# Altium footprint library PH2.0.PcbLib: 65 footprints (part 4 of 5)
Each footprint in its own frame and in the unit in brackets; x right, y up, seen from the top. Pads: shape width x height; smd on the part's side, far side on the other; paste and mask are expansions set on the pad; w line width, h text height; cw(c..) or ccw(c..) is an arc to the next point about the centre after c.
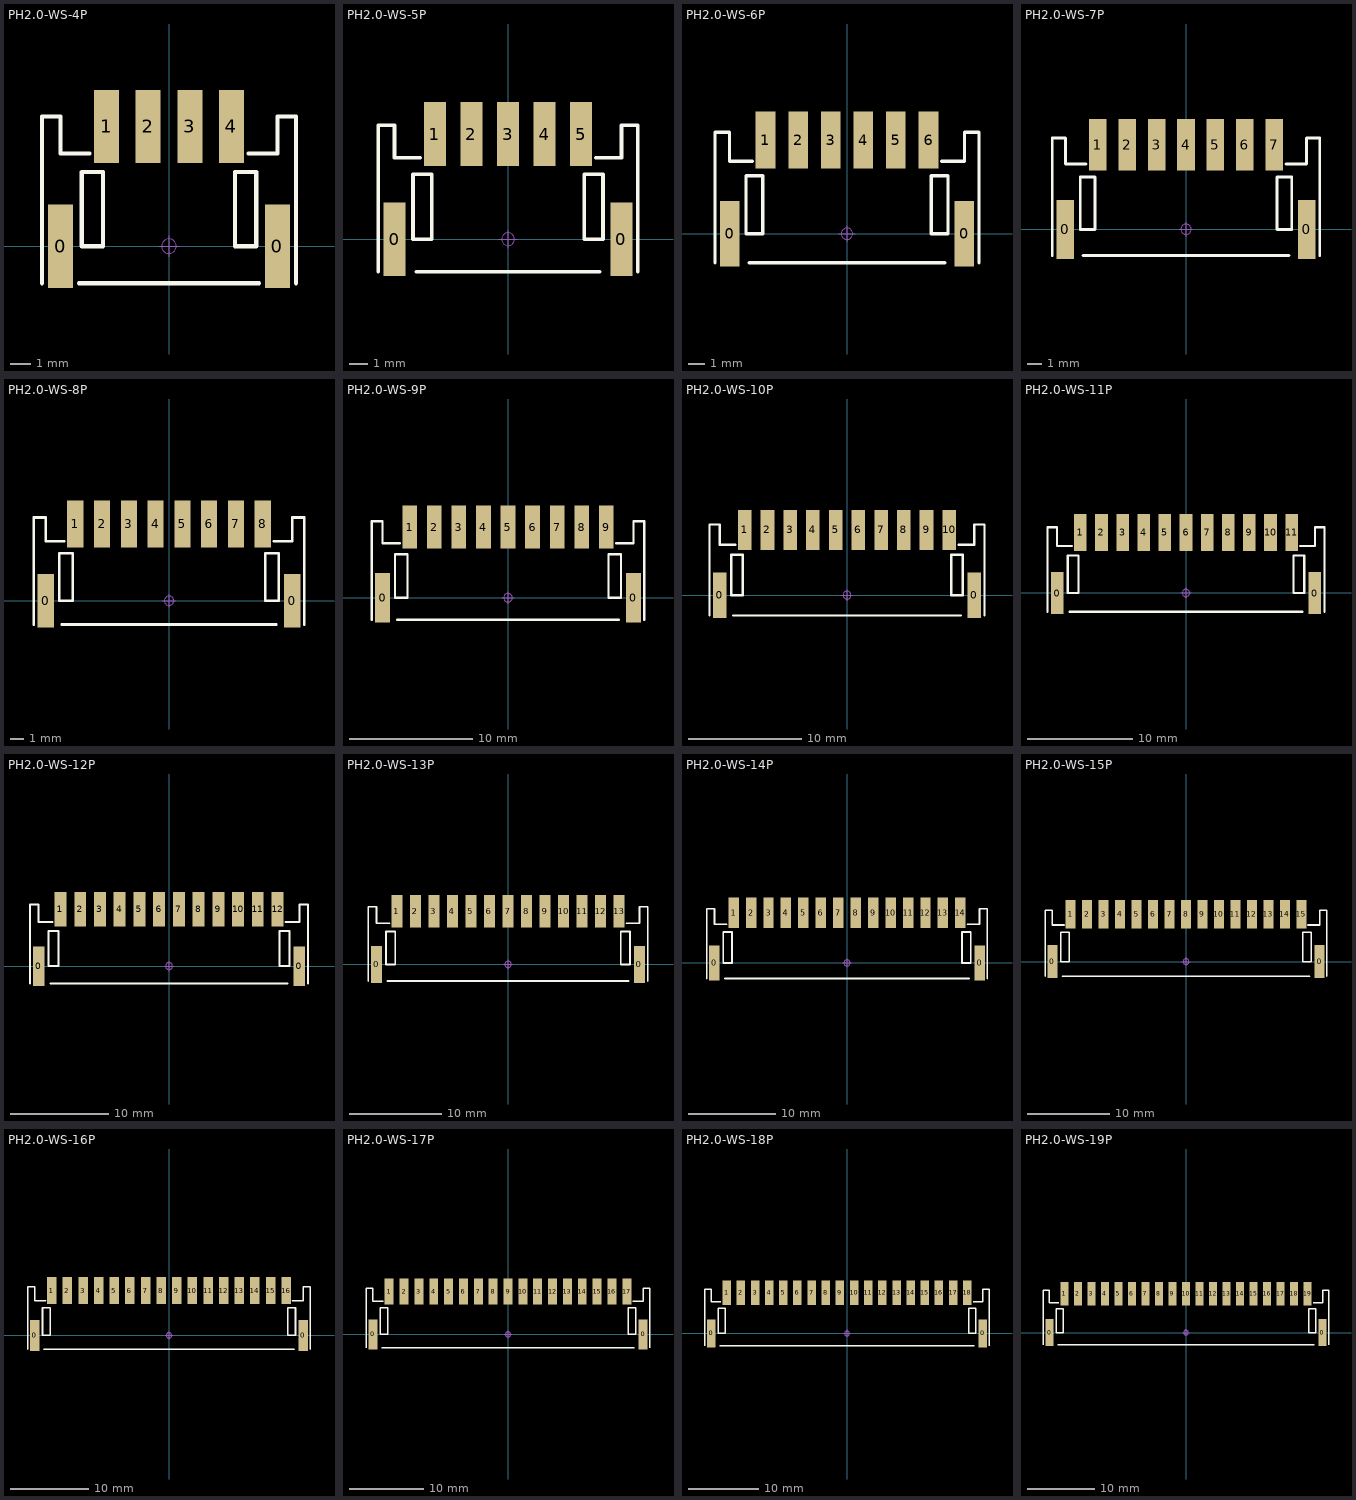
[diagram p3: the footprints below, top view; thin cyan lines are the x and y axes]

## PH2.0-WS-4P [mm] "长：12mm，宽：7.6mm，高：5.5mm"
pads (6):
  rect 1.2x4 smd: 0(-5.2,-0.006) 0(5.2,-0.006)
  rect 1.2x3.5 smd: 1(-3,5.744) 2(-1,5.744) 3(1,5.744) 4(3,5.744)
Top Overlay:
  lines w0.2: -6.096,-1.778 -6.096,6.223 -5.207,6.223 -5.207,4.445 -3.81,4.445 ; -4.318,-1.778 4.318,-1.778 ; 3.81,4.445 5.207,4.445 5.207,6.223 6.096,6.223 6.096,-1.778 ; -4.191,0 -4.191,3.556 -3.175,3.556 -3.175,0 -4.191,0 ; 3.175,0 3.175,3.556 4.191,3.556 4.191,0 3.175,0
Mechanical 15:
  circle w0.05: c0,0 r0.35
  lines w0.05: -0.5,0 0.5,0 ; 0,-0.5 0,0.5
3D body "PH2.0 SMD-W-4P.STEP": height 5.55, standoff 0.05, extent -6,-1.65 6,6.95

## PH2.0-WS-5P [mm] "长：14mm，宽：7.6mm，高：5.5mm"
pads (7):
  rect 1.2x4 smd: 0(-6.2,-0.006) 0(6.2,-0.006)
  rect 1.2x3.5 smd: 1(-4,5.744) 2(-2,5.744) 3(0,5.744) 4(2,5.744) 5(4,5.744)
Top Overlay:
  lines w0.2: -7.096,-1.778 -7.096,6.223 -6.207,6.223 -6.207,4.445 -4.81,4.445 ; -5,-1.778 5,-1.778 ; 4.81,4.445 6.207,4.445 6.207,6.223 7.096,6.223 7.096,-1.778 ; -5.191,0 -5.191,3.556 -4.175,3.556 -4.175,0 -5.191,0 ; 4.175,0 4.175,3.556 5.191,3.556 5.191,0 4.175,0
Mechanical 15:
  circle w0.05: c0,0 r0.35
  lines w0.05: -0.5,0 0.5,0 ; 0,-0.5 0,0.5
3D body "PH2.0 SMD-W-5P.STEP": height 5.55, standoff 0.05, extent -7,-1.65 7,6.95

## PH2.0-WS-6P [mm] "长：16mm，宽：7.6mm，高：5.5mm"
pads (8):
  rect 1.2x4 smd: 0(-7.2,-0.006) 0(7.2,-0.006)
  rect 1.2x3.5 smd: 1(-5,5.744) 2(-3,5.744) 3(-1,5.744) 4(1,5.744) 5(3,5.744) 6(5,5.744)
Top Overlay:
  lines w0.2: -8.096,-1.778 -8.096,6.223 -7.207,6.223 -7.207,4.445 -5.81,4.445 ; -6,-1.778 6,-1.778 ; 5.81,4.445 7.207,4.445 7.207,6.223 8.096,6.223 8.096,-1.778 ; -6.191,0 -6.191,3.556 -5.175,3.556 -5.175,0 -6.191,0 ; 5.175,0 5.175,3.556 6.191,3.556 6.191,0 5.175,0
Mechanical 15:
  circle w0.05: c0,0 r0.35
  lines w0.05: -0.5,0 0.5,0 ; 0,-0.5 0,0.5
3D body "PH2.0 SMD-W-6P.STEP": height 5.55, standoff 0.05, extent -8,-1.65 8,6.95

## PH2.0-WS-7P [mm] "长：18mm，宽：7.6mm，高：5.5mm"
pads (9):
  rect 1.2x4 smd: 0(-8.2,-0.006) 0(8.2,-0.006)
  rect 1.2x3.5 smd: 1(-6,5.744) 2(-4,5.744) 3(-2,5.744) 4(0,5.744) 5(2,5.744) 6(4,5.744) 7(6,5.744)
Top Overlay:
  lines w0.2: -9.096,-1.778 -9.096,6.223 -8.207,6.223 -8.207,4.445 -6.81,4.445 ; -7,-1.778 7,-1.778 ; 6.81,4.445 8.207,4.445 8.207,6.223 9.096,6.223 9.096,-1.778 ; -7.191,0 -6.175,0 -6.175,3.556 -7.191,3.556 -7.191,0 ; 6.175,0 7.191,0 7.191,3.556 6.175,3.556 6.175,0
Mechanical 15:
  circle w0.05: c0,0 r0.35
  lines w0.05: -0.5,0 0.5,0 ; 0,-0.5 0,0.5
3D body "PH2.0 SMD-W-7P.STEP": height 5.55, standoff 0.05, extent -9,-1.65 9,6.95

## PH2.0-WS-8P [mm] "长：20mm，宽：7.6mm，高：5.5mm"
pads (10):
  rect 1.2x4 smd: 0(-9.2,-0.006) 0(9.2,-0.006)
  rect 1.2x3.5 smd: 1(-7,5.744) 2(-5,5.744) 3(-3,5.744) 4(-1,5.744) 5(1,5.744) 6(3,5.744) 7(5,5.744) 8(7,5.744)
Top Overlay:
  lines w0.2: -10.096,-1.778 -10.096,6.223 -9.207,6.223 -9.207,4.445 -7.81,4.445 ; -8,-1.778 8,-1.778 ; 7.81,4.445 9.207,4.445 9.207,6.223 10.096,6.223 10.096,-1.778 ; -8.191,0 -8.191,3.556 -7.175,3.556 -7.175,0 -8.191,0 ; 7.175,0 7.175,3.556 8.191,3.556 8.191,0 7.175,0
Mechanical 15:
  circle w0.05: c0,0 r0.35
  lines w0.05: -0.5,0 0.5,0 ; 0,-0.5 0,0.5
3D body "PH2.0 SMD-W-8P.STEP": height 5.55, standoff 0.05, extent -10,-1.65 10,6.95

## PH2.0-WS-9P [mm] "长：22mm，宽：7.6mm，高：5.5mm"
pads (11):
  rect 1.2x4 smd: 0(-10.2,-0.006) 0(10.2,-0.006)
  rect 1.2x3.5 smd: 1(-8,5.744) 2(-6,5.744) 3(-4,5.744) 4(-2,5.744) 5(0,5.744) 6(2,5.744) 7(4,5.744) 8(6,5.744) 9(8,5.744)
Top Overlay:
  lines w0.2: -11.096,-1.778 -11.096,6.223 -10.207,6.223 -10.207,4.445 -8.81,4.445 ; -9,-1.778 9,-1.778 ; 8.81,4.445 10.207,4.445 10.207,6.223 11.096,6.223 11.096,-1.778 ; -9.191,0 -8.175,0 -8.175,3.556 -9.191,3.556 -9.191,0 ; 8.175,0 9.191,0 9.191,3.556 8.175,3.556 8.175,0
Mechanical 15:
  circle w0.05: c0,0 r0.35
  lines w0.05: -0.5,0 0.5,0 ; 0,-0.5 0,0.5
3D body "PH2.0 SMD-W-9P.STEP": height 5.55, standoff 0.05, extent -11,-1.65 11,6.95

## PH2.0-WS-10P [mm] "长：24mm，宽：7.6mm，高：5.5mm"
pads (12):
  rect 1.2x4 smd: 0(-11.2,-0.006) 0(11.2,-0.006)
  rect 1.2x3.5 smd: 1(-9,5.744) 2(-7,5.744) 3(-5,5.744) 4(-3,5.744) 5(-1,5.744) 6(1,5.744) 7(3,5.744) 8(5,5.744) 9(7,5.744) 10(9,5.744)
Top Overlay:
  lines w0.2: -12.096,-1.778 -12.096,6.223 -11.207,6.223 -11.207,4.445 -9.81,4.445 ; -10,-1.778 10,-1.778 ; 9.81,4.445 11.207,4.445 11.207,6.223 12.096,6.223 12.096,-1.778 ; -10.191,0 -10.191,3.556 -9.175,3.556 -9.175,0 -10.191,0 ; 9.175,0 9.175,3.556 10.191,3.556 10.191,0 9.175,0
Mechanical 15:
  circle w0.05: c0,0 r0.35
  lines w0.05: -0.5,0 0.5,0 ; 0,-0.5 0,0.5
3D body "PH2.0 SMD-W-10P.STEP": height 5.55, standoff 0.05, extent -12,-1.65 12,6.95

## PH2.0-WS-11P [mm] "长：26mm，宽：7.6mm，高：5.5mm"
pads (13):
  rect 1.2x4 smd: 0(-12.2,-0.006) 0(12.2,-0.006)
  rect 1.2x3.5 smd: 1(-10,5.744) 2(-8,5.744) 3(-6,5.744) 4(-4,5.744) 5(-2,5.744) 6(0,5.744) 7(2,5.744) 8(4,5.744) 9(6,5.744) 10(8,5.744) 11(10,5.744)
Top Overlay:
  lines w0.2: -13.096,-1.778 -13.096,6.223 -12.207,6.223 -12.207,4.445 -10.81,4.445 ; -11,-1.778 11,-1.778 ; 10.81,4.445 12.207,4.445 12.207,6.223 13.096,6.223 13.096,-1.778 ; -11.191,0 -11.191,3.556 -10.175,3.556 -10.175,0 -11.191,0 ; 10.175,0 10.175,3.556 11.191,3.556 11.191,0 10.175,0
Mechanical 15:
  circle w0.05: c0,0 r0.35
  lines w0.05: -0.5,0 0.5,0 ; 0,-0.5 0,0.5
3D body "PH2.0 SMD-W-11P.STEP": height 5.55, standoff 0.05, extent -13,-1.65 13,6.95

## PH2.0-WS-12P [mm] "长：28mm，宽：7.6mm，高：5.5mm"
pads (14):
  rect 1.2x4 smd: 0(-13.2,-0.006) 0(13.2,-0.006)
  rect 1.2x3.5 smd: 1(-11,5.744) 2(-9,5.744) 3(-7,5.744) 4(-5,5.744) 5(-3,5.744) 6(-1,5.744) 7(1,5.744) 8(3,5.744) 9(5,5.744) 10(7,5.744) 11(9,5.744) 12(11,5.744)
Top Overlay:
  lines w0.2: -14.096,-1.778 -14.096,6.223 -13.207,6.223 -13.207,4.445 -11.81,4.445 ; -12,-1.778 12,-1.778 ; 11.81,4.445 13.207,4.445 13.207,6.223 14.096,6.223 14.096,-1.778 ; -12.191,0 -11.175,0 -11.175,3.556 -12.191,3.556 -12.191,0 ; 11.175,0 12.191,0 12.191,3.556 11.175,3.556 11.175,0
Mechanical 15:
  circle w0.05: c0,0 r0.35
  lines w0.05: -0.5,0 0.5,0 ; 0,-0.5 0,0.5
3D body "PH2.0 SMD-W-12P.STEP": height 5.55, standoff 0.05, extent -14,-1.65 14,6.95

## PH2.0-WS-13P [mm] "长：30mm，宽：7.6mm，高：5.5mm"
pads (15):
  rect 1.2x4 smd: 0(-14.2,-0.006) 0(14.2,-0.006)
  rect 1.2x3.5 smd: 1(-12,5.744) 2(-10,5.744) 3(-8,5.744) 4(-6,5.744) 5(-4,5.744) 6(-2,5.744) 7(0,5.744) 8(2,5.744) 9(4,5.744) 10(6,5.744) 11(8,5.744) 12(10,5.744) 13(12,5.744)
Top Overlay:
  lines w0.2: -15.096,-1.778 -15.096,6.223 -14.207,6.223 -14.207,4.445 -12.81,4.445 ; -13,-1.778 13,-1.778 ; 12.81,4.445 14.207,4.445 14.207,6.223 15.096,6.223 15.096,-1.778 ; -13.191,0 -12.175,0 -12.175,3.556 -13.191,3.556 -13.191,0 ; 12.175,0 13.191,0 13.191,3.556 12.175,3.556 12.175,0
Mechanical 15:
  circle w0.05: c0,0 r0.35
  lines w0.05: -0.5,0 0.5,0 ; 0,-0.5 0,0.5
3D body "PH2.0 SMD-W-13P.STEP": height 5.55, standoff 0.05, extent -15,-1.65 15,6.95

## PH2.0-WS-14P [mm] "长：32mm，宽：7.6mm，高：5.5mm"
pads (16):
  rect 1.2x4 smd: 0(-15.2,-0.006) 0(15.2,-0.006)
  rect 1.2x3.5 smd: 1(-13,5.744) 2(-11,5.744) 3(-9,5.744) 4(-7,5.744) 5(-5,5.744) 6(-3,5.744) 7(-1,5.744) 8(1,5.744) 9(3,5.744) 10(5,5.744) 11(7,5.744) 12(9,5.744) 13(11,5.744) 14(13,5.744)
Top Overlay:
  lines w0.2: -16.096,-1.778 -16.096,6.223 -15.207,6.223 -15.207,4.445 -13.81,4.445 ; -14,-1.778 14,-1.778 ; 13.81,4.445 15.207,4.445 15.207,6.223 16.096,6.223 16.096,-1.778 ; -14.191,0 -13.175,0 -13.175,3.556 -14.191,3.556 -14.191,0 ; 13.175,0 14.191,0 14.191,3.556 13.175,3.556 13.175,0
Mechanical 15:
  circle w0.05: c0,0 r0.35
  lines w0.05: -0.5,0 0.5,0 ; 0,-0.5 0,0.5
3D body "PH2.0 SMD-W-14P.STEP": height 5.55, standoff 0.05, extent -16,-1.65 16,6.95

## PH2.0-WS-15P [mm] "长：34mm，宽：7.6mm，高：5.5mm"
pads (17):
  rect 1.2x4 smd: 0(-16.2,-0.006) 0(16.2,-0.006)
  rect 1.2x3.5 smd: 1(-14,5.744) 2(-12,5.744) 3(-10,5.744) 4(-8,5.744) 5(-6,5.744) 6(-4,5.744) 7(-2,5.744) 8(0,5.744) 9(2,5.744) 10(4,5.744) 11(6,5.744) 12(8,5.744) 13(10,5.744) 14(12,5.744) 15(14,5.744)
Top Overlay:
  lines w0.2: -17.096,-1.778 -17.096,6.223 -16.207,6.223 -16.207,4.445 -14.81,4.445 ; -15,-1.778 15,-1.778 ; 14.81,4.445 16.207,4.445 16.207,6.223 17.096,6.223 17.096,-1.778 ; -15.191,0 -15.191,3.556 -14.175,3.556 -14.175,0 -15.191,0 ; 14.175,0 14.175,3.556 15.191,3.556 15.191,0 14.175,0
Mechanical 15:
  circle w0.05: c0,0 r0.35
  lines w0.05: -0.5,0 0.5,0 ; 0,-0.5 0,0.5
3D body "PH2.0 SMD-W-15P.STEP": height 5.55, standoff 0.05, extent -17,-1.65 17,6.95

## PH2.0-WS-16P [mm] "长：36mm，宽：7.6mm，高：5.5mm"
pads (18):
  rect 1.2x4 smd: 0(-17.2,-0.006) 0(17.2,-0.006)
  rect 1.2x3.5 smd: 1(-15,5.744) 2(-13,5.744) 3(-11,5.744) 4(-9,5.744) 5(-7,5.744) 6(-5,5.744) 7(-3,5.744) 8(-1,5.744) 9(1,5.744) 10(3,5.744) 11(5,5.744) 12(7,5.744) 13(9,5.744) 14(11,5.744) 15(13,5.744) 16(15,5.744)
Top Overlay:
  lines w0.2: -18.096,-1.778 -18.096,6.223 -17.207,6.223 -17.207,4.445 -15.81,4.445 ; -16,-1.778 16,-1.778 ; 15.81,4.445 17.207,4.445 17.207,6.223 18.096,6.223 18.096,-1.778 ; -16.191,0 -16.191,3.556 -15.175,3.556 -15.175,0 -16.191,0 ; 15.175,0 15.175,3.556 16.191,3.556 16.191,0 15.175,0
Mechanical 15:
  circle w0.05: c0,0 r0.35
  lines w0.05: -0.5,0 0.5,0 ; 0,-0.5 0,0.5
3D body "PH2.0 SMD-W-16P.STEP": height 5.55, standoff 0.05, extent -18,-1.65 18,6.95

## PH2.0-WS-17P [mm] "长：38mm，宽：7.6mm，高：5.5mm"
pads (19):
  rect 1.2x4 smd: 0(-18.2,-0.006) 0(18.2,-0.006)
  rect 1.2x3.5 smd: 1(-16,5.744) 2(-14,5.744) 3(-12,5.744) 4(-10,5.744) 5(-8,5.744) 6(-6,5.744) 7(-4,5.744) 8(-2,5.744) 9(0,5.744) 10(2,5.744) 11(4,5.744) 12(6,5.744) 13(8,5.744) 14(10,5.744) 15(12,5.744) 16(14,5.744) 17(16,5.744)
Top Overlay:
  lines w0.2: -19.096,-1.778 -19.096,6.223 -18.207,6.223 -18.207,4.445 -16.81,4.445 ; -17,-1.778 17,-1.778 ; 16.81,4.445 18.207,4.445 18.207,6.223 19.096,6.223 19.096,-1.778 ; -17.191,0 -17.191,3.556 -16.175,3.556 -16.175,0 -17.191,0 ; 16.175,0 16.175,3.556 17.191,3.556 17.191,0 16.175,0
Mechanical 15:
  circle w0.05: c0,0 r0.35
  lines w0.05: -0.5,0 0.5,0 ; 0,-0.5 0,0.5
3D body "PH2.0 SMD-W-17P.STEP": height 5.55, standoff 0.05, extent -19,-1.65 19,6.95

## PH2.0-WS-18P [mm] "长：40mm，宽：7.6mm，高：5.5mm"
pads (20):
  rect 1.2x4 smd: 0(-19.2,-0.006) 0(19.2,-0.006)
  rect 1.2x3.5 smd: 1(-17,5.744) 2(-15,5.744) 3(-13,5.744) 4(-11,5.744) 5(-9,5.744) 6(-7,5.744) 7(-5,5.744) 8(-3,5.744) 9(-1,5.744) 10(1,5.744) 11(3,5.744) 12(5,5.744) 13(7,5.744) 14(9,5.744) 15(11,5.744) 16(13,5.744) 17(15,5.744) 18(17,5.744)
Top Overlay:
  lines w0.2: -20.096,-1.778 -20.096,6.223 -19.207,6.223 -19.207,4.445 -17.81,4.445 ; -18,-1.778 18,-1.778 ; 17.81,4.445 19.207,4.445 19.207,6.223 20.096,6.223 20.096,-1.778 ; -18.191,0 -18.191,3.556 -17.175,3.556 -17.175,0 -18.191,0 ; 17.175,0 17.175,3.556 18.191,3.556 18.191,0 17.175,0
Mechanical 15:
  circle w0.05: c0,0 r0.35
  lines w0.05: -0.5,0 0.5,0 ; 0,-0.5 0,0.5
3D body "PH2.0 SMD-W-18P.STEP": height 5.55, standoff 0.05, extent -20,-1.65 20,6.95

## PH2.0-WS-19P [mm] "长：42mm，宽：7.6mm，高：5.5mm"
pads (21):
  rect 1.2x4 smd: 0(-20.2,-0.006) 0(20.2,-0.006)
  rect 1.2x3.5 smd: 1(-18,5.744) 2(-16,5.744) 3(-14,5.744) 4(-12,5.744) 5(-10,5.744) 6(-8,5.744) 7(-6,5.744) 8(-4,5.744) 9(-2,5.744) 10(0,5.744) 11(2,5.744) 12(4,5.744) 13(6,5.744) 14(8,5.744) 15(10,5.744) 16(12,5.744) 17(14,5.744) 18(16,5.744) 19(18,5.744)
Top Overlay:
  lines w0.2: -21.096,-1.778 -21.096,6.223 -20.207,6.223 -20.207,4.445 -18.81,4.445 ; -19,-1.778 19,-1.778 ; 18.81,4.445 20.207,4.445 20.207,6.223 21.096,6.223 21.096,-1.778 ; -19.191,0 -19.191,3.556 -18.175,3.556 -18.175,0 -19.191,0 ; 18.175,0 18.175,3.556 19.191,3.556 19.191,0 18.175,0
Mechanical 15:
  circle w0.05: c0,0 r0.35
  lines w0.05: -0.5,0 0.5,0 ; 0,-0.5 0,0.5
3D body "PH2.0 SMD-W-19P.STEP": height 5.55, standoff 0.05, extent -21,-1.65 21,6.95